# Altium footprint library Power_Connector.PcbLib: 1 footprints
Each footprint in its own frame and in the unit in brackets; x right, y up, seen from the top. Pads: shape width x height; smd on the part's side, far side on the other; paste and mask are expansions set on the pad; w line width, h text height; cw(c..) or ccw(c..) is an arc to the next point about the centre after c.
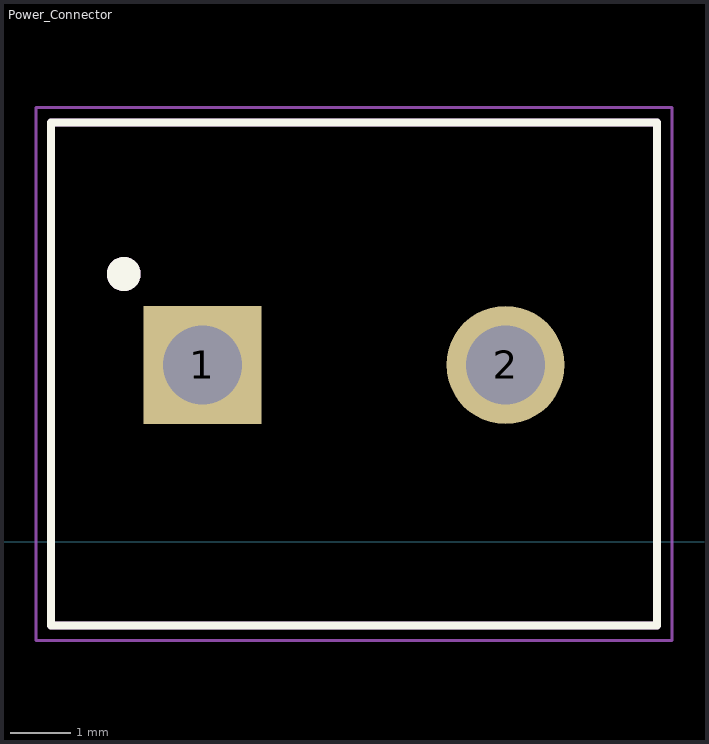
[diagram p0: the footprint, top view; thin cyan lines are the x and y axes]

## Power_Connector [mm]
pads (2):
  rect 1.95x1.95 hole 1.3: 1(20.36,2.921)
  round 1.95 hole 1.3: 2(25.36,2.921)
Top Overlay:
  circle w0.28: c19.06,4.421 r0.14
  lines w0.127: 17.86,-1.379 17.86,6.921 27.86,6.921 27.86,-1.379 17.86,-1.379
Mechanical 4:
  circle w0.28: c19.06,4.421 r0.14
  circle w0.28: c19.06,4.421 r0.14
  lines w0.127: 17.86,-1.379 27.86,-1.379 ; 17.86,-1.379 17.86,6.921 ; 17.86,-1.379 27.86,-1.379 ; 17.86,-1.379 17.86,6.921 ; 17.86,6.921 27.86,6.921 ; 17.86,6.921 27.86,6.921 ; 27.86,-1.379 27.86,6.921 ; 27.86,-1.379 27.86,6.921
Mechanical 16:
  lines w0.05: 17.61,-1.629 17.61,7.171 28.11,7.171 28.11,-1.629 17.61,-1.629